# Altium footprint library PcbLib1.PcbLib: 3 footprints
Each footprint in its own frame and in the unit in brackets; x right, y up, seen from the top. Pads: shape width x height; smd on the part's side, far side on the other; paste and mask are expansions set on the pad; w line width, h text height; cw(c..) or ccw(c..) is an arc to the next point about the centre after c.
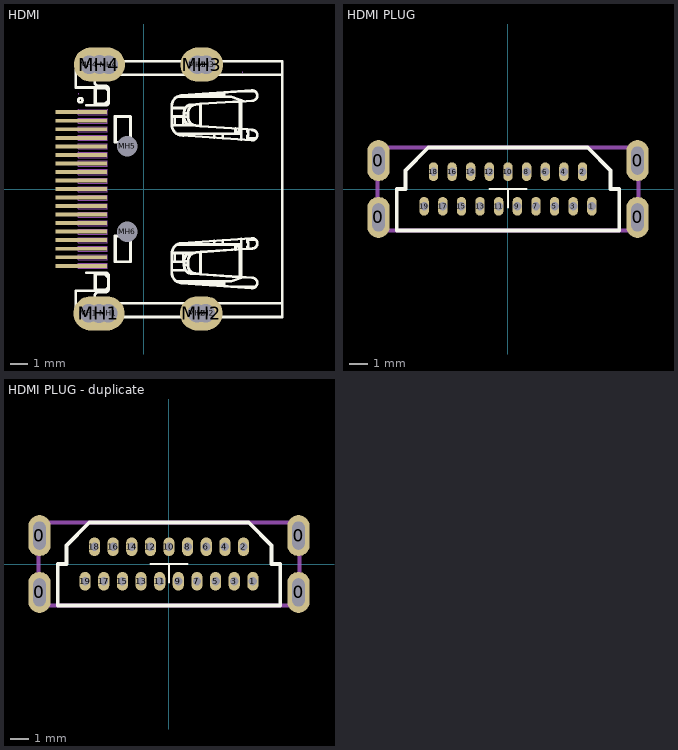
[diagram p0: the footprints below, top view; thin cyan lines are the x and y axes]

## HDMI [mm]
pads (33):
  rect 3x0.23 smd: 1(-3.664,4.5) 2(-3.664,4) 3(-3.664,3.5) 4(-3.664,3) 5(-3.664,2.5) 6(-3.664,2) 7(-3.664,1.5) 8(-3.664,1) 9(-3.664,0.5) 10(-3.664,0) 11(-3.664,-0.5) 12(-3.664,-1) 13(-3.664,-1.5) 14(-3.664,-2) 15(-3.664,-2.5) 16(-3.664,-3) 17(-3.664,-3.5) 18(-3.664,-4) 19(-3.664,-4.5)
  round 1.1 hole 1.1: MH1(-3.22,-7.283) MH1(-2.077,-7.283) MH2(3.13,-7.283) MH2(3.638,-7.283) MH3(3.156,7.283) MH3(3.664,7.283) MH4(-3.194,7.283) MH4(-2.051,7.283)
  oval 3x2 hole 1.1: MH1(-2.624,-7.29) MH4(-2.598,7.29)
  oval 2.5x2 hole 1: MH2(3.376,-7.29) MH3(3.402,7.29)
  round 1.1 hole 1.2: MH5(-0.964,2.5) MH6(-0.964,-2.5)
Top Overlay:
  drawing of 560 lines, arcs and shapes, not listed
Mechanical 1:
  drawing of 1444 lines, arcs and shapes, not listed
Mechanical 2:
  circle w0.006: c3.724,-7.255 r0.003
  circle w0.006: c3.724,7.245 r0.003
  circle w0.006: c5.787,6.845 r0.003
  circle w0.006: c3.724,6.845 r0.003
  circle w0.006: c3.724,7.645 r0.003
  circle w0.006: c-2.576,-7.655 r0.003
  circle w0.006: c3.424,-7.655 r0.003
  circle w0.006: c-3.821,3.995 r0.003
  circle w0.006: c-3.821,4.495 r0.003
  circle w0.006: c-3.821,-4.505 r0.003
  circle w0.006: c-3.821,4.495 r0.003
  circle w0.006: c-3.821,5.58 r0.003
  circle w0.006: c-3.821,4.635 r0.003
  circle w0.006: c-2.125,4.635 r0.003
  circle w0.006: c-3.821,1.845 r0.003
  circle w0.006: c-3.821,2.145 r0.003
Mechanical 3:
  text "19" at -1.85,-4.263 h0.25
  text "18" at -1.85,-3.761 h0.25
  text "2" at -1.85,4.102 h0.25
  text "1" at -1.85,4.573 h0.25
3D body: height 5.98, standoff -2.02, extent -3.513,-8.354 6.387,7.846

## HDMI PLUG [mm]
pads (23):
  oval 1.2x2.2 hole 0.65 slot 1.5 at 90 deg: 0(-6.949,-1.524) 0(-6.949,1.524) 0(6.949,-1.524) 0(6.949,1.524)
  oval 0.5x1 hole 0.45: 1(4.5,-0.927) 2(4,0.927) 3(3.5,-0.927) 4(3,0.927) 5(2.5,-0.927) 6(2,0.927) 7(1.5,-0.927) 8(1,0.927) 9(0.5,-0.927) 10(0,0.927) 11(-0.5,-0.927) 12(-1,0.927) 13(-1.5,-0.927) 14(-2,0.927) 15(-2.5,-0.927) 16(-3,0.927) 17(-3.5,-0.927) 18(-4,0.927) 19(-4.5,-0.927)
Top Overlay:
  lines w0.1: -1,0 1,0 ; 0,-1 0,0
  lines w0.2: -5.969,-2.225 5.969,-2.225 5.969,0 5.5,0 5.5,1 4.275,2.225 -4.275,2.225 -5.5,1 -5.5,0 -5.969,0 -5.969,-2.225
Mechanical 13:
  lines w0.2: 4.275,2.225 7,2.225 7,0 7,-2.225 -7,-2.225 -7,0 -7,2.225 4.445,2.225
3D body: height 12.81, standoff -2.4, extent -6.95,-2.23 6.95,2.22

## HDMI PLUG - duplicate [mm]
pads (23):
  oval 1.2x2.2 hole 0.65 slot 1.5 at 90 deg: 0(-6.949,-1.524) 0(-6.949,1.524) 0(6.949,-1.524) 0(6.949,1.524)
  oval 0.6x1 hole 0.45: 1(4.5,-0.927) 2(4,0.927) 3(3.5,-0.927) 4(3,0.927) 5(2.5,-0.927) 6(2,0.927) 7(1.5,-0.927) 8(1,0.927) 9(0.5,-0.927) 10(0,0.927) 11(-0.5,-0.927) 12(-1,0.927) 13(-1.5,-0.927) 14(-2,0.927) 15(-2.5,-0.927) 16(-3,0.927) 17(-3.5,-0.927) 18(-4,0.927) 19(-4.5,-0.927)
Top Overlay:
  lines w0.1: -1,0 1,0 ; 0,-1 0,0
  lines w0.2: -5.969,-2.225 -5.969,0 -5.5,0 -5.5,1 -4.275,2.225 4.275,2.225 5.5,1 5.5,0 5.969,0 5.969,-2.225 -5.969,-2.225
Mechanical 13:
  lines w0.2: 4.275,2.225 7,2.225 7,0 7,-2.225 -7,-2.225 -7,0 -7,2.225 4.445,2.225
3D body: height 12.81, standoff -2.4, extent -6.95,-2.23 6.95,2.22